# EAGLE library part TPK-2 (library den)
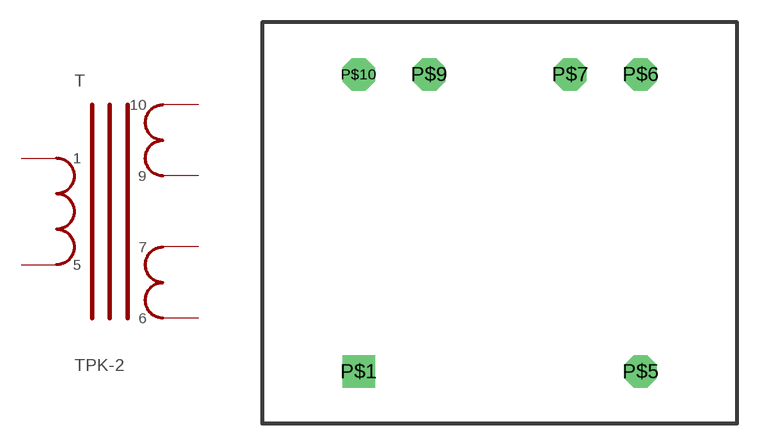
[diagram p37: symbol with the pads of TPG2; footprint TPG2]

Designator prefix T

## TPK-2  [TPG2]
P$1  1  pas
P$5  5  pas
P$6  6  pas
P$7  7  pas
P$9  9  pas
P$10  10  pas

## Footprint TPG2 (pad centres in mm)
drill 1.2 pad 2.184 square: P$1 -9.5,-10
drill 1.2 pad 2.184 octagon: P$5 9.5,-10; P$6 9.5,10; P$7 4.75,10; P$9 -4.75,10; P$10 -9.5,10